# Altium schematic symbol library IC.SchLib: 38 symbols
Pins are listed as number, name and electrical type; pins without a type are passive.

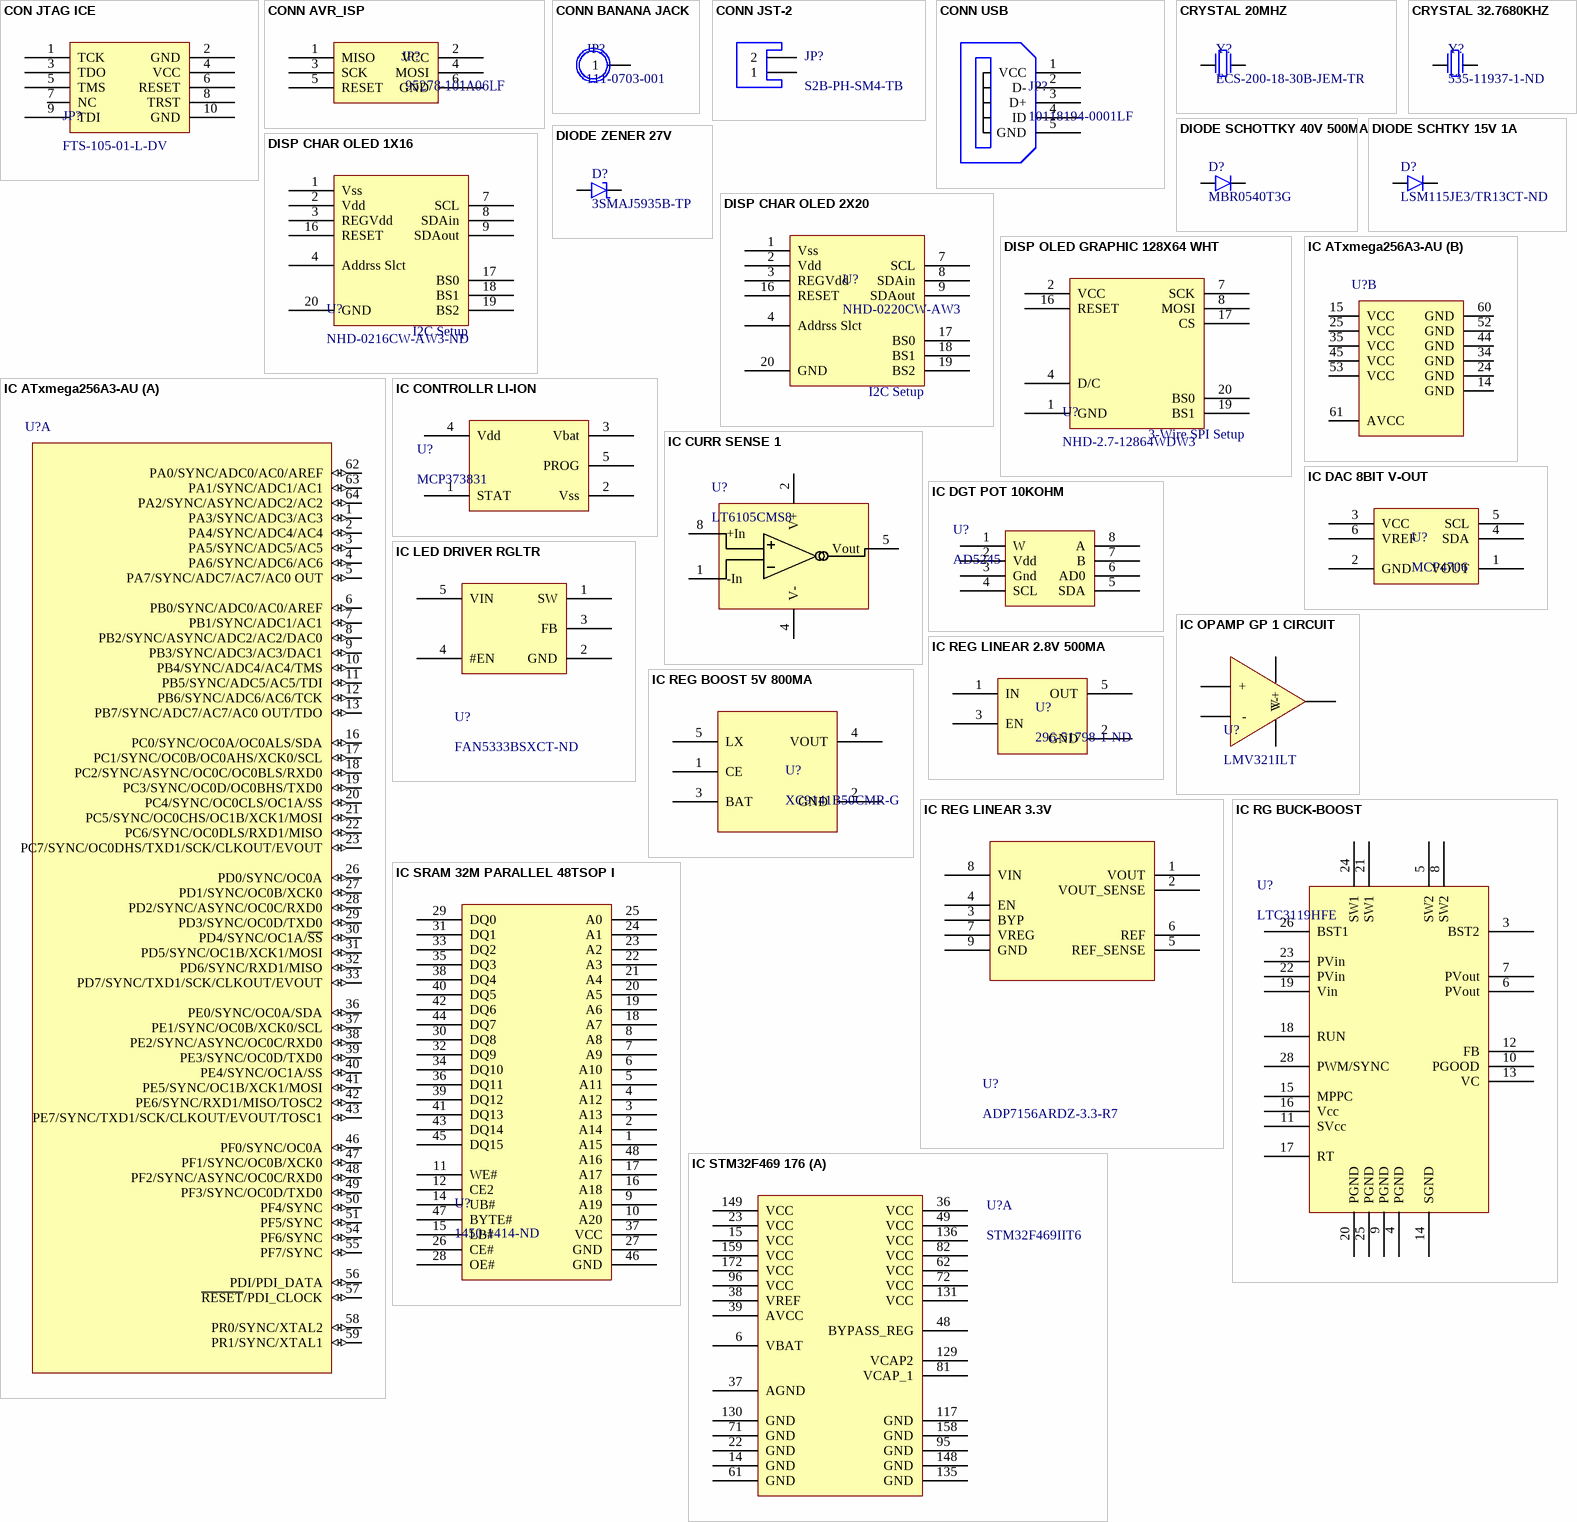
[diagram p0: symbols CON JTAG ICE to IC STM32F469 176]

## CON JTAG ICE
designator JP?, comment FTS-105-01-L-DV
AVR JTAG-ATMEL ICE / CONN HEADER VERT 10POS 1.27MM SMD
footprint CONN 10POS 1.27MM (CONN HEADER VERT 10POS 2.54MM)
pins: 1 TCK, 2 GND, 3 TDO, 4 VCC, 5 TMS, 6 RESET, 7 NC, 8 TRST, 9 TDI, 10 GND

## CONN AVR_ISP
designator JP?, comment ‎95278-101A06LF
Atmel SPI Programming connector
footprint 2x3 Pin Header
pins: 1 MISO, 2 VCC, 3 SCK, 4 MOSI, 5 RESET, 6 GND

## CONN BANANA JACK
designator JP?, comment 111-0703-001
CONN BIND POST KNURLED BLACK‎
footprint Banana Jack Post
pins: 1

## CONN JST-2
designator JP?, comment S2B-PH-SM4-TB
CONN HEADER SMD R/A 2POS 2MM / S2B-PH-SM4-TB(LF)(SN)
footprint JST-2-SMT-RA
pins: 1, 2

## CONN USB
designator JP?, comment 10118194-0001LF
CONN RCPT USB2.0 MICRO B SMD R/A
footprint 014-439 (Micro USB B Receptacle)
pins: 1 VCC, 2 D-, 3 D+, 4 ID, 5 GND

## CRYSTAL 20MHZ
designator Y?, comment ECS-200-18-30B-JEM-TR
CRYSTAL 20MHZ 18PF SMD
footprint 4-SMD XTAL
pins: 1, 3

## CRYSTAL 32.7680KHZ
designator Y?, comment 535-11937-1-ND
32.768kHz ±20ppm Crystal 6pF 55 kOhms 2-SMD, No Lead
footprint ABS07-120
pins: 1, 2

## DIODE SCHOTTKY 40V 500MA
designator D?, comment MBR0540T3G
DIODE SCHOTTKY 40V 500MA SOD123 / MBR0540T3GOSCT-ND
footprint SOD-123
pins: 1, 2

## DIODE SCHTKY 15V 1A
designator D?, comment LSM115JE3/TR13CT-ND
DIODE SCHOTTKY 15V 1A DO214BA
footprint DO214BA
pins: A, K

## DIODE ZENER 27V
designator D?, comment 3SMAJ5935B-TP
DIODE ZENER 27V 3W DO214AC / 3SMAJ5935B-TPMSCT-ND
footprint DO-214AC
pins: 1, 2

## DISP CHAR OLED 1X16
designator U?, comment NHD-0216CW-AW3-ND
LCD MODULE 32 DIG 16 X 2 OLED
footprint NHD-0216CW-AW3
pins: 1 Vss, 2 Vdd, 3 REGVdd, 4 Addrss Slct, 7 SCL, 8 SDAin, 9 SDAout, 16 RESET, 17 BS0, 18 BS1, 19 BS2, 20 GND
text: I2C Setup

## DISP CHAR OLED 2X20
designator U?, comment NHD-0220CW-AW3
LCD MODULE 40 DIG 20 X 2 OLED
footprint NHD-0220CW-AW3
pins: 1 Vss, 2 Vdd, 3 REGVdd, 4 Addrss Slct, 7 SCL, 8 SDAin, 9 SDAout, 16 RESET, 17 BS0, 18 BS1, 19 BS2, 20 GND
text: I2C Setup

## DISP OLED GRAPHIC 128X64 WHT
designator U?, comment NHD-2.7-12864WDW3
Graphic LCD Display Module  White OLED - Passive Matrix Parallel/Serial 2.7" (68.58mm) 128 x 64
footprint NHD-2.7-12864WDW3
pins: 1 GND, 2 VCC, 4 D/C, 7 SCK, 8 MOSI, 16 RESET, 17 CS, 19 BS1, 20 BS0
text: 3-Wire SPI Setup

## IC ATxmega256A3-AU
designator U?
8/16-bit AVR XMEGA A3 Microcontroller, 1.6-3.6V, 32MHz, 256KB + 8KB Flash, 4KB EEPROM, 16KB SRAM, 64-pin TQFP, Industrial Grade (-40°C to 85°C), Pb-Free; DatasheetVersion: revT, Dec-2010; PackageVersion: revC, Oct-2010; PackageReference: 64A; PackageDescription: 64-Pin Plastic Thin Profile Quad Flat Pack, 14 x 14 x 1.0 mm Body, 0.8 mm Pitch (TQFP); Code_JEDEC: MS-026-AEB; ComponentLink1Description: Manufacturer URL; ComponentLink1URL: http://www.atmel.com/; ComponentLink2Description: ATxmega64A3/128A3/192A3/256A3 Datasheet; ComponentLink2URL: http://www.atmel.com/dyn/resources/prod_documents/doc8068.pdf
footprint 64-TQFP
part A pins: 1 PA3/SYNC/ADC3/AC3 (io), 2 PA4/SYNC/ADC4/AC4 (io), 3 PA5/SYNC/ADC5/AC5 (io), 4 PA6/SYNC/ADC6/AC6 (io), 5 PA7/SYNC/ADC7/AC7/AC0 OUT (io), 6 PB0/SYNC/ADC0/AC0/AREF (io), 7 PB1/SYNC/ADC1/AC1 (io), 8 PB2/SYNC/ASYNC/ADC2/AC2/DAC0 (io), 9 PB3/SYNC/ADC3/AC3/DAC1 (io), 10 PB4/SYNC/ADC4/AC4/TMS (io), 11 PB5/SYNC/ADC5/AC5/TDI (io), 12 PB6/SYNC/ADC6/AC6/TCK (io), 13 PB7/SYNC/ADC7/AC7/AC0 OUT/TDO (io), 16 PC0/SYNC/OC0A/OC0ALS/SDA (io), 17 PC1/SYNC/OC0B/OC0AHS/XCK0/SCL (io), 18 PC2/SYNC/ASYNC/OC0C/OC0BLS/RXD0 (io), 19 PC3/SYNC/OC0D/OC0BHS/TXD0 (io), 20 PC4/SYNC/OC0CLS/OC1A/SS (io), 21 PC5/SYNC/OC0CHS/OC1B/XCK1/MOSI (io), 22 PC6/SYNC/OC0DLS/RXD1/MISO (io), 23 PC7/SYNC/OC0DHS/TXD1/SCK/CLKOUT/EVOUT (io), 26 PD0/SYNC/OC0A (io), 27 PD1/SYNC/OC0B/XCK0 (io), 28 PD2/SYNC/ASYNC/OC0C/RXD0 (io), 29 PD3/SYNC/OC0D/TXD0 (io), 30 PD4/SYNC/OC1A/~{SS} (io), 31 PD5/SYNC/OC1B/XCK1/MOSI (io), 32 PD6/SYNC/RXD1/MISO (io), 33 PD7/SYNC/TXD1/SCK/CLKOUT/EVOUT (io), 36 PE0/SYNC/OC0A/SDA (io), 37 PE1/SYNC/OC0B/XCK0/SCL (io), 38 PE2/SYNC/ASYNC/OC0C/RXD0 (io), 39 PE3/SYNC/OC0D/TXD0 (io), 40 PE4/SYNC/OC1A/SS (io), 41 PE5/SYNC/OC1B/XCK1/MOSI (io), 42 PE6/SYNC/RXD1/MISO/TOSC2 (io), 43 PE7/SYNC/TXD1/SCK/CLKOUT/EVOUT/TOSC1 (io), 46 PF0/SYNC/OC0A (io), 47 PF1/SYNC/OC0B/XCK0 (io), 48 PF2/SYNC/ASYNC/OC0C/RXD0 (io), 49 PF3/SYNC/OC0D/TXD0 (io), 50 PF4/SYNC (io), 51 PF5/SYNC (io), 54 PF6/SYNC (io), 55 PF7/SYNC (io), 56 PDI/PDI_DATA (io), 57 ~{RESET}/PDI_CLOCK (io), 58 PR0/SYNC/XTAL2 (io), 59 PR1/SYNC/XTAL1 (io), 62 PA0/SYNC/ADC0/AC0/AREF (io), 63 PA1/SYNC/ADC1/AC1 (io), 64 PA2/SYNC/ASYNC/ADC2/AC2 (io)
part B pins: 14 GND (power), 15 VCC (power), 24 GND (power), 25 VCC (power), 34 GND (power), 35 VCC (power), 44 GND (power), 45 VCC (power), 52 GND (power), 53 VCC (power), 60 GND (power), 61 AVCC (power)

## IC CONTROLLR LI-ION
designator U?, comment MCP373831
IC CONTROLLR LI-ION 4.2V SOT23-5
footprint SOT-23-5
pins: 1 STAT, 2 Vss, 3 Vbat, 4 Vdd, 5 PROG

## IC CURR SENSE 1
designator U?, comment LT6105CMS8
IC CURR SENSE 1 CIRCUIT 8MSOP
footprint MSOP-8
pins: 1 -In, 2 V+, 4 V-, 5 Vout, 8 +In

## IC DAC 8BIT V-OUT
designator U?, comment MCP4706
IC DAC 8BIT V-OUT SOT23-6
footprint SOT-23-6
pins: 1 VOUT, 2 GND, 3 VCC, 4 SDA, 5 SCL, 6 VREF

## IC DGT POT 10KOHM
designator U?, comment AD5245
IC DGT POT 10KOHM 256TAP SOT23-8
footprint SOT-23-8
pins: 1 W, 2 Vdd, 3 Gnd, 4 SCL, 5 SDA, 6 AD0, 7 B, 8 A

## IC LED DRIVER RGLTR
designator U?, comment FAN5333BSXCT-ND
LED Driver IC 1 Output DC DC Regulator Step-Up (Boost) Analog, PWM Dimming 1.5A (Switch) SOT-23-5
footprint SOT-23-5
pins: 1 SW, 2 GND, 3 FB, 4 #EN, 5 VIN

## IC OPAMP GP 1 CIRCUIT
designator U?, comment LMV321ILT
IC OPAMP GP 1 CIRCUIT SOT23-5
footprint SOT-23-5
pins: 1 +, 2 V-, 3  -, 4 OUT, 5 V+

## IC REG BOOST 5V 800MA
designator U?, comment XC9141B50CMR-G
IC REG BOOST 5V 800MA SOT25
footprint SOT-23-5
pins: 1 CE, 2 GND, 3 BAT, 4 VOUT, 5 LX

## IC REG LINEAR 2.8V 500MA
designator U?, comment 296-51798-1-ND
Linear Voltage Regulator IC  1 Output  500mA SOT-23-5
footprint SOT-23-5
pins: 1 IN, 2 GND, 3 EN, 5 OUT

## IC REG LINEAR 3.3V
designator U?, comment ADP7156ARDZ-3.3-R7
IC REG LINEAR 3.3V 1.2A 8SOIC
footprint 8-SOIC-THM (SOIC, 8-Leads, Body 4.90x3.90mm, Pitch 1.27mm, IPC Medium Density)
pins: 1 VOUT, 2 VOUT_SENSE, 3 BYP, 4 EN, 5 REF_SENSE, 6 REF, 7 VREG, 8 VIN, 9 GND

## IC RG BUCK-BOOST
designator U?, comment LTC3119HFE
Buck-Boost Switching Regulator IC Positive Adjustable 0.8V 16 Output 5A 28-TSSOP
footprint TSSOP28
pins: 3 BST2, 4 PGND, 5 SW2, 6 PVout, 7 PVout, 8 SW2, 9 PGND, 10 PGOOD, 11 SVcc, 12 FB, 13 VC, 14 SGND, 15 MPPC, 16 Vcc, 17 RT, 18 RUN, 19 Vin, 20 PGND, 21 SW1, 22 PVin, 23 PVin, 24 SW1, 25 PGND, 26 BST1, 28 PWM/SYNC

## IC SRAM 32M PARALLEL 48TSOP I
designator U?, comment 1450-1414-ND
IC SRAM 32M PARALLEL 48TSOP I
footprint TSOP48
pins: 1 A15, 2 A14, 3 A13, 4 A12, 5 A11, 6 A10, 7 A9, 8 A8, 9 A19, 10 A20, 11 WE#, 12 CE2, 14 UB#, 15 LB#, 16 A18, 17 A17, 18 A7, 19 A6, 20 A5, 21 A4, 22 A3, 23 A2, 24 A1, 25 A0, 26 CE#, 27 GND, 28 OE#, 29 DQ0, 30 DQ8, 31 DQ1, 32 DQ9, 33 DQ2, 34 DQ10, 35 DQ3, 36 DQ11, 37 VCC, 38 DQ4, 39 DQ12, 40 DQ5, 41 DQ13, 42 DQ6, 43 DQ14, 44 DQ7, 45 DQ15, 46 GND, 47 BYTE#, 48 A16

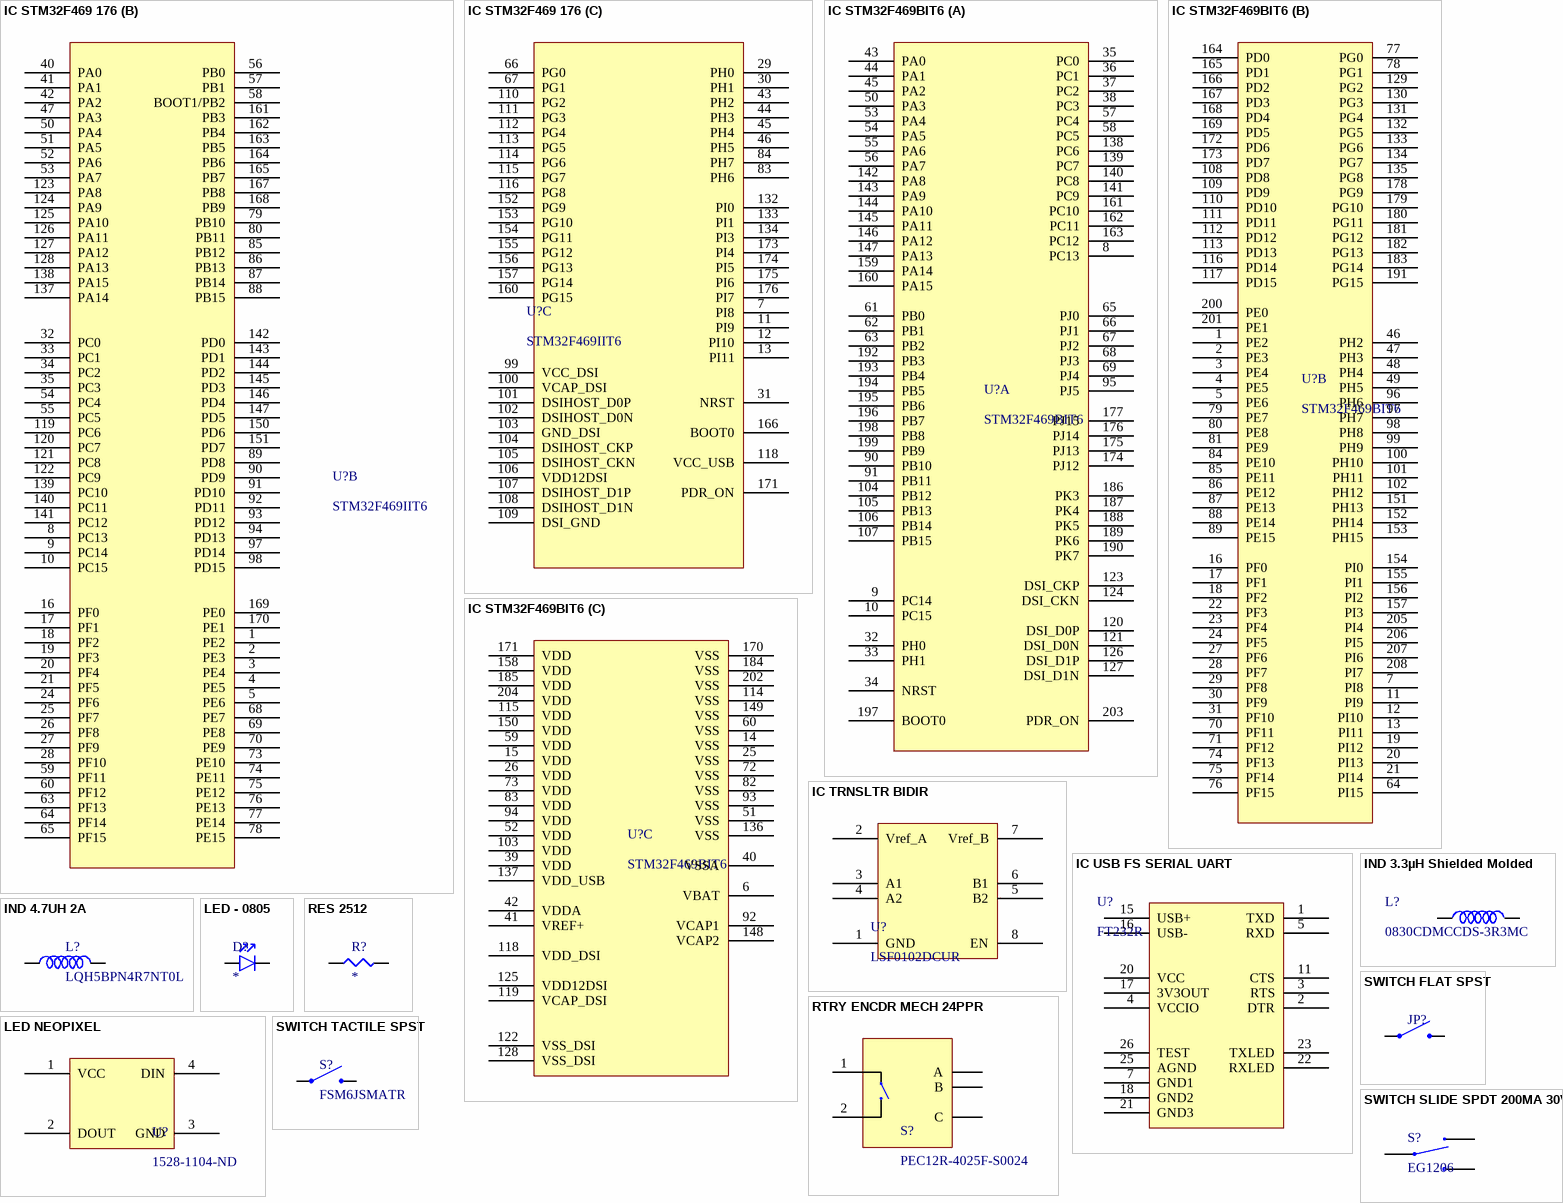
[diagram p1: symbols IC STM32F469 176 to SWITCH TACTILE SPST]

## IC STM32F469 176
designator U?, comment STM32F469IIT6
ARM® Cortex®-M4 STM32F4 Microcontroller IC 32-Bit 180MHz 2MB (2M x 8) FLASH 176-LQFP (24x24)
footprint LQFP176
part A pins: 6 VBAT, 14 GND, 15 VCC, 22 GND, 23 VCC, 36 VCC, 37 AGND, 38 VREF, 39 AVCC, 48 BYPASS_REG, 49 VCC, 61 GND, 62 VCC, 71 GND, 72 VCC, 81 VCAP_1, 82 VCC, 95 GND, 96 VCC, 117 GND, 129 VCAP2, 130 GND, 131 VCC, 135 GND, 136 VCC, 148 GND, 149 VCC, 158 GND, 159 VCC, 172 VCC
part B pins: 1 PE2, 2 PE3, 3 PE4, 4 PE5, 5 PE6, 8 PC13, 9 PC14, 10 PC15, 16 PF0, 17 PF1, 18 PF2, 19 PF3, 20 PF4, 21 PF5, 24 PF6, 25 PF7, 26 PF8, 27 PF9, 28 PF10, 32 PC0, 33 PC1, 34 PC2, 35 PC3, 40 PA0, 41 PA1, 42 PA2, 47 PA3, 50 PA4, 51 PA5, 52 PA6, 53 PA7, 54 PC4, 55 PC5, 56 PB0, 57 PB1, 58 BOOT1/PB2, 59 PF11, 60 PF12, 63 PF13, 64 PF14, 65 PF15, 68 PE7, 69 PE8, 70 PE9, 73 PE10, 74 PE11, 75 PE12, 76 PE13, 77 PE14, 78 PE15, 79 PB10, 80 PB11, 85 PB12, 86 PB13, 87 PB14, 88 PB15, 89 PD8, 90 PD9, 91 PD10, 92 PD11, 93 PD12, 94 PD13, 97 PD14, 98 PD15, 119 PC6, 120 PC7, 121 PC8, 122 PC9, 123 PA8, 124 PA9, 125 PA10, 126 PA11, 127 PA12, 128 PA13, 137 PA14, 138 PA15, 139 PC10, 140 PC11, 141 PC12, 142 PD0, 143 PD1, 144 PD2, 145 PD3, 146 PD4, 147 PD5, 150 PD6, 151 PD7, 161 PB3, 162 PB4, 163 PB5, 164 PB6, 165 PB7, 167 PB8, 168 PB9, 169 PE0, 170 PE1
part C pins: 7 PI8, 11 PI9, 12 PI10, 13 PI11, 29 PH0, 30 PH1, 31 NRST, 43 PH2, 44 PH3, 45 PH4, 46 PH5, 66 PG0, 67 PG1, 83 PH6, 84 PH7, 99 VCC_DSI, 100 VCAP_DSI, 101 DSIHOST_D0P, 102 DSIHOST_D0N, 103 GND_DSI, 104 DSIHOST_CKP, 105 DSIHOST_CKN, 106 VDD12DSI, 107 DSIHOST_D1P, 108 DSIHOST_D1N, 109 DSI_GND, 110 PG2, 111 PG3, 112 PG4, 113 PG5, 114 PG6, 115 PG7, 116 PG8, 118 VCC_USB, 132 PI0, 133 PI1, 134 PI3, 152 PG9, 153 PG10, 154 PG11, 155 PG12, 156 PG13, 157 PG14, 160 PG15, 166 BOOT0, 171 PDR_ON, 173 PI4, 174 PI5, 175 PI6, 176 PI7

## IC STM32F469BIT6
designator U?, comment STM32F469BIT6
ARM® Cortex®-M4 STM32F4 Microcontroller IC 32-Bit 180MHz 2MB (2M x 8) FLASH 208-LQFP (28x28)
footprint LQFP208
part A pins: 8 PC13, 9 PC14, 10 PC15, 32 PH0, 33 PH1, 34 NRST, 35 PC0, 36 PC1, 37 PC2, 38 PC3, 43 PA0, 44 PA1, 45 PA2, 50 PA3, 53 PA4, 54 PA5, 55 PA6, 56 PA7, 57 PC4, 58 PC5, 61 PB0, 62 PB1, 63 PB2, 65 PJ0, 66 PJ1, 67 PJ2, 68 PJ3, 69 PJ4, 90 PB10, 91 PB11, 95 PJ5, 104 PB12, 105 PB13, 106 PB14, 107 PB15, 120 DSI_D0P, 121 DSI_D0N, 123 DSI_CKP, 124 DSI_CKN, 126 DSI_D1P, 127 DSI_D1N, 138 PC6, 139 PC7, 140 PC8, 141 PC9, 142 PA8, 143 PA9, 144 PA10, 145 PA11, 146 PA12, 147 PA13, 159 PA14, 160 PA15, 161 PC10, 162 PC11, 163 PC12, 174 PJ12, 175 PJ13, 176 PJ14, 177 PJ15, 186 PK3, 187 PK4, 188 PK5, 189 PK6, 190 PK7, 192 PB3, 193 PB4, 194 PB5, 195 PB6, 196 PB7, 197 BOOT0, 198 PB8, 199 PB9, 203 PDR_ON
part B pins: 1 PE2, 2 PE3, 3 PE4, 4 PE5, 5 PE6, 7 PI8, 11 PI9, 12 PI10, 13 PI11, 16 PF0, 17 PF1, 18 PF2, 19 PI12, 20 PI13, 21 PI14, 22 PF3, 23 PF4, 24 PF5, 27 PF6, 28 PF7, 29 PF8, 30 PF9, 31 PF10, 46 PH2, 47 PH3, 48 PH4, 49 PH5, 64 PI15, 70 PF11, 71 PF12, 74 PF13, 75 PF14, 76 PF15, 77 PG0, 78 PG1, 79 PE7, 80 PE8, 81 PE9, 84 PE10, 85 PE11, 86 PE12, 87 PE13, 88 PE14, 89 PE15, 96 PH6, 97 PH7, 98 PH8, 99 PH9, 100 PH10, 101 PH11, 102 PH12, 108 PD8, 109 PD9, 110 PD10, 111 PD11, 112 PD12, 113 PD13, 116 PD14, 117 PD15, 129 PG2, 130 PG3, 131 PG4, 132 PG5, 133 PG6, 134 PG7, 135 PG8, 151 PH13, 152 PH14, 153 PH15, 154 PI0, 155 PI1, 156 PI2, 157 PI3, 164 PD0, 165 PD1, 166 PD2, 167 PD3, 168 PD4, 169 PD5, 172 PD6, 173 PD7, 178 PG9, 179 PG10, 180 PG11, 181 PG12, 182 PG13, 183 PG14, 191 PG15, 200 PE0, 201 PE1, 205 PI4, 206 PI5, 207 PI6, 208 PI7
part C pins: 6 VBAT, 14 VSS, 15 VDD, 25 VSS, 26 VDD, 39 VDD, 40 VSSA, 41 VREF+, 42 VDDA, 51 VSS, 52 VDD, 59 VDD, 60 VSS, 72 VSS, 73 VDD, 82 VSS, 83 VDD, 92 VCAP1, 93 VSS, 94 VDD, 103 VDD, 114 VSS, 115 VDD, 118 VDD_DSI, 119 VCAP_DSI, 122 VSS_DSI, 125 VDD12DSI, 128 VSS_DSI, 136 VSS, 137 VDD_USB, 148 VCAP2, 149 VSS, 150 VDD, 158 VDD, 170 VSS, 171 VDD, 184 VSS, 185 VDD, 202 VSS, 204 VDD

## IC TRNSLTR BIDIR
designator U?, comment LSF0102DCUR
Voltage Level Translator Bidirectional 1 Circuit 2 Channel  8-VSSOP
footprint VSSOP-8
pins: 1 GND, 2 Vref_A, 3 A1, 4 A2, 5 B2, 6 B1, 7 Vref_B, 8 EN

## IC USB FS SERIAL UART
designator U?, comment FT232R
IC USB FS SERIAL UART 28-SSOP
footprint 28-SSOP
pins: 1 TXD, 2 DTR, 3 RTS, 4 VCCIO, 5 RXD, 7 GND1, 11 CTS, 15 USB+, 16 USB-, 17 3V3OUT, 18 GND2, 20 VCC, 21 GND3, 22 RXLED, 23 TXLED, 25 AGND, 26 TEST

## IND 3.3µH Shielded Molded 
designator L?, comment 0830CDMCCDS-3R3MC
3.3µH Shielded Molded Inductor 9.5A 19mOhm Max Nonstandard
footprint 0830CDMCC
pins: 0, 1

## IND 4.7UH 2A
designator L?, comment LQH5BPN4R7NT0L
FIXED IND 4.7UH 2A 58 MOHM SMD
footprint LQH5BPN4R7NT0L
pins: 0, 1

## LED - 0805
designator D?
footprint 0805 SMD
pins: 1, 2

## LED NEOPIXEL
designator U?, comment 1528-1104-ND
Addressable Lighting Neopixel 10 LED Discrete Serial (Shift Register) Red, Green, Blue (RGB) 5.00mm L x 5.00mm W
footprint SK6812
pins: 1 VCC, 2 DOUT, 3 GND, 4 DIN

## RES 2512
designator R?
RES 2512 SMD GENERIC
footprint 2515 RES
pins: 1, 2

## RTRY ENCDR MECH 24PPR
designator S?, comment PEC12R-4025F-S0024
Rotary Encoder Mechanical 24 Quadrature (Incremental) Vertical
footprint PEC12R-4025F-S
pins: 1, 2, A, B, C

## SWITCH FLAT SPST
designator JP?
SWITCH TACTILE SPST-NO 0.05A 12V / EG2531CT-ND
footprint SPST SMD TL3342F160
pins: 1, 2

## SWITCH SLIDE SPDT 200MA 30V
designator S?, comment EG1206
SWITCH SLIDE SPDT 200MA 30V / Slide Switch SPDT Through Hole, Right Angle
footprint Eg1206
pins: 1, 2, 3

## SWITCH TACTILE SPST
designator S?, comment FSM6JSMATR
SWITCH TACTILE SPST-NO 0.05A 24V
footprint TACTILE 4 PIN SMD 6MM
pins: 1, 2